# Altium integrated library Renesas Microprocessor SuperH.IntLib: 433 symbols (part 10 of 62)
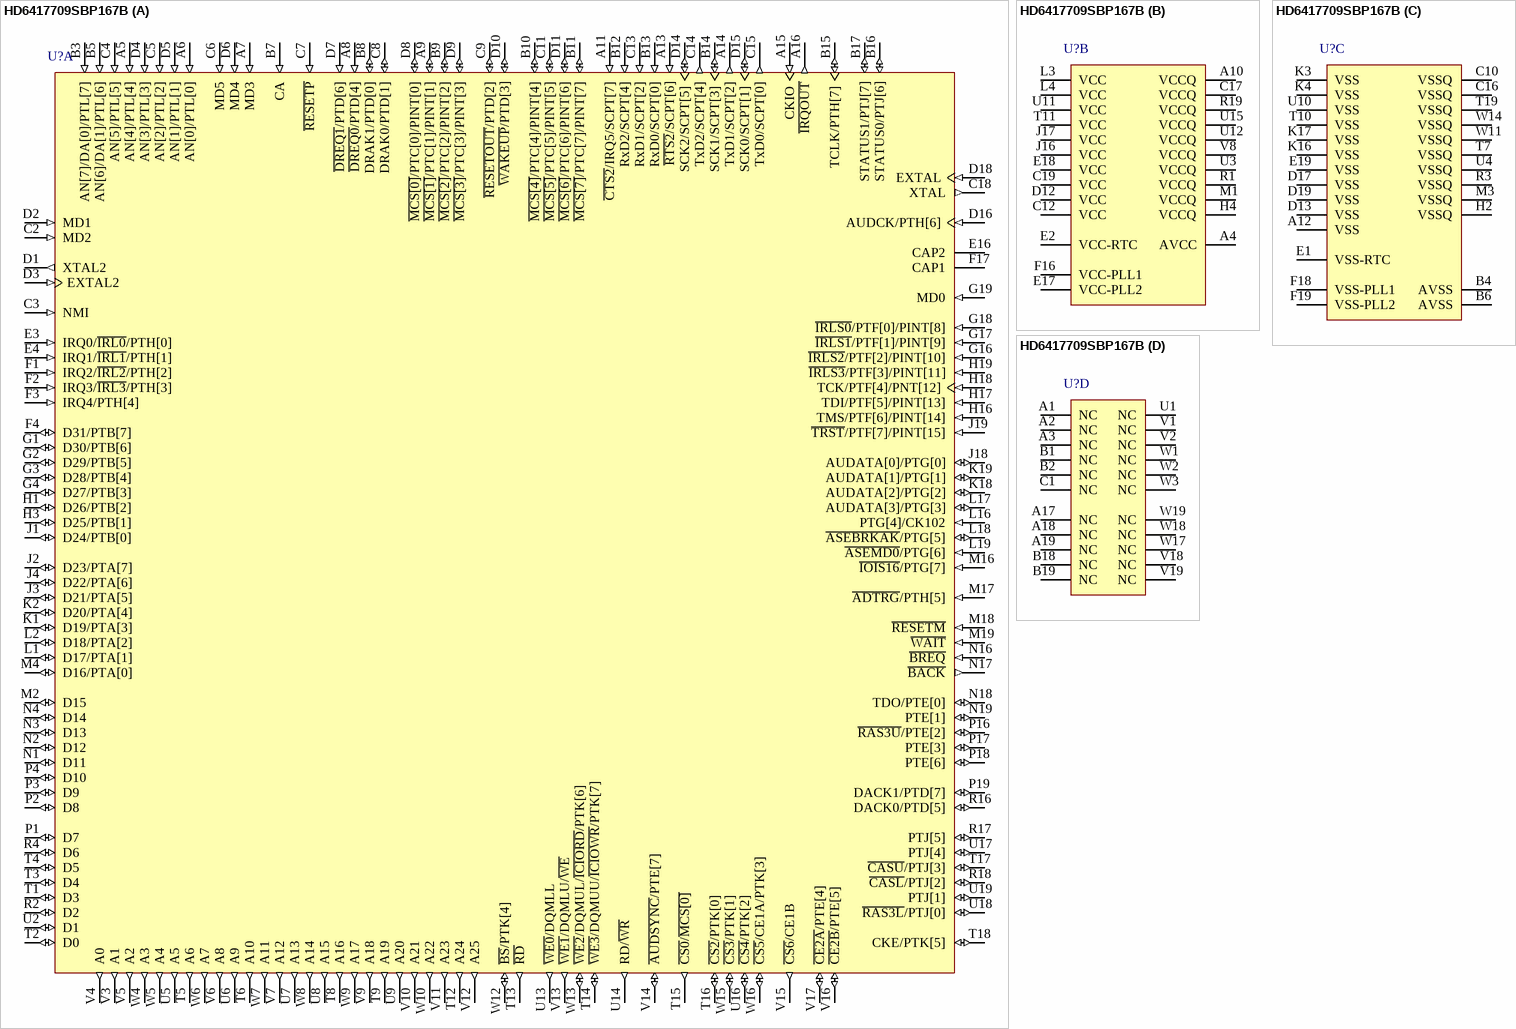
[diagram p285: symbol HD6417709SBP167B]

## HD6417709SBP167B
designator U?
32-Bit RISC Microcomputer, SH7700 Series, SH-3 core, 167MHz, 240-pin CSP, -20 to 75°C; Published: 28-Aug-2009; DatasheetVersion: Rev.5.00, Sep-2003; PackageVersion: Sep-2005; PackageReference: PLBG0240JA-A; Publisher: Altium Limited; PackageDescription: 240-Ball Plastic Low Profile Fine-Pitch BGA, 13 x 13 mm Body, 0.65 mm Pitch; Code_JEITA: P-LFBGA240-13x13-0.65; ComponentLink1Description: Manufacturer Link; ComponentLink1URL: http://www.renesas.com/fmwk.jsp?cnt=sh7709s_root.jsp&fp=/products/mpumcu/superh_family/sh7700_series/sh7709s_group/; ComponentLink2Description: Datasheet; ComponentLink2URL: http://documentation.renesas.com/eng/products/mpumcu/rej09b0081_sh7709s.pdf; ComponentLink3Description: Packaging Specification; ComponentLink3URL: http://sg.renesas.com/media/products/common_info/package/pdf/ic/code/plbg0240ja_a.pdf
footprint PLBG0240JA-A (BGA, 240-Leads, Body 13x13mm, Pitch 0.65mm)
part A pins: A5 AN[4]/PTL[4] (in) "A/D converter input / input port L", A6 AN[0]/PTL[0] (in) "A/D converter input / input port L", A7 MD3 (in) "Area 0 bus width setting", A8 ~{DREQ0}/PTD[4] (in) "DMA request / input port D", A9 ~{MCS[1]}/PTC[1]/PINT[1] (io) "Mask ROM chip select / input/output port C / port interrupt", A11 ~{CTS2}/IRQ5/SCPT[7] (in) "Transmit clear 2 / external interrupt request / SCI input port", A13 ~{RTS2}/SCPT[6] (in) "Transmit request 2 / SCI input/output port", A14 TxD1/SCPT[2] (out) "Transmit data 1 / SCI output port", A15 CKIO (in) "System clock input/output", A16 ~{IRQOUT} (out) "Interrupt request notification", B3 AN[7]/DA[0]/PTL[7] (in) "A/D converter input / D/A converter output / input port L", B5 AN[6]/DA[1]/PTL[6] (in) "A/D converter input / D/A converter output / input port L", B7 CA (in) "Chip activate (hardware standby request signal)", B8 DRAK1/PTD[0] (io) "DMA request acknowledge / input/output port D", B9 ~{MCS[2]}/PTC[2]/PINT[2] (io) "Mask ROM chip select / input/output port C / port interrupt", B10 ~{MCS[4]}/PTC[4]/PINT[4] (io) "Mask ROM chip select / input/output port C / port interrupt", B11 ~{MCS[7]}/PTC[7]/PINT[7] (io) "Mask ROM chip select / input/output port C / port interrupt", B12 RxD2/SCPT[4] (in) "Transmit data 2 / SCI output port", B13 RxD0/SCPT[0] (in) "Transmit data 0 / SCI output port", B14 SCK1/SCPT[3] (io) "Serial clock 1 port / SCI input/output", B15 TCLK/PTH[7] (io) "TMU or RTC clock input/output / input/output port H", B16 STATUS0/PTJ[6] (io) "Processor status / input/output port J", B17 STATUS1/PTJ[7] (io) "Processor status / input/output port J", C2 MD2 (in) "Clock mode setting", C3 NMI (in) "Nonmaskable interrupt request", C4 AN[5]/PTL[5] (in) "A/D converter input / input port L", C5 AN[2]/PTL[2] (in) "A/D converter input / input port L", C6 MD5 (in) "Endian setting", C7 ~{RESETP} (in) "Power-on reset request", C8 DRAK0/PTD[1] (io) "DMA request acknowledge / input/output port D", C9 ~{RESETOUT}/PTD[2] (io) "Reset output / input/output port D", C11 ~{MCS[5]}/PTC[5]/PINT[5] (io) "Mask ROM chip select / input/output port C / port interrupt", C13 RxD1/SCPT[2] (in) "Transmit data 1 / SCI output port", C14 TxD2/SCPT[4] (out) "Transmit data 2 / SCI output port", C15 TxD0/SCPT[0] (out) "Transmit data 0 / SCI output port", C18 XTAL (out) "Clock oscillator pin", D1 XTAL2 (out) "On-chip RTC crystal oscillator pin", D2 MD1 (in) "Clock mode setting", D3 EXTAL2 (in) "On-chip RTC crystal oscillator pin", D4 AN[3]/PTL[3] (in) "A/D converter input / input port L", D5 AN[1]/PTL[1] (in) "A/D converter input / input port L", D6 MD4 (in) "Area 0 bus width setting", D7 ~{DREQ1}/PTD[6] (in) "DMA request / input port D", D8 ~{MCS[0]}/PTC[0]/PINT[0] (io) "Mask ROM chip select / input/output port C / port interrupt", D9 ~{MCS[3]}/PTC[3]/PINT[3] (io) "Mask ROM chip select / input/output port C / port interrupt", D10 ~{WAKEUP}/PTD[3] (io) "Standby mode interrupt request notification / input/output port D", D11 ~{MCS[6]}/PTC[6]/PINT[6] (io) "Mask ROM chip select / input/output port C / port interrupt", D14 SCK2/SCPT[5] (io) "Serial clock 2 port / SCI input/output", D15 SCK0/SCPT[1] (io) "Serial clock 0 port / SCI input/output", D16 AUDCK/PTH[6] (in) "AUD clock / input port H", D18 EXTAL (in) "External clock pin / crystal oscillator", E3 IRQ0/~{IRL0}/PTH[0] (in) "External interrupt request/input port H", E4 IRQ1/~{IRL1}/PTH[1] (in) "External interrupt request/input port H", E16 CAP2 "PLL2 external capacitance pin", F1 IRQ2/~{IRL2}/PTH[2] (in) "External interrupt request/input port H", F2 IRQ3/~{IRL3}/PTH[3] (in) "External interrupt request/input port H", F3 IRQ4/PTH[4] (in) "External interrupt request/input port H", F4 D31/PTB[7] (io) "Data bus / input/output port B", F17 CAP1 "PLL1 external capacitance pin", G1 D30/PTB[6] (io) "Data bus / input/output port B", G2 D29/PTB[5] (io) "Data bus / input/output port B", G3 D28/PTB[4] (io) "Data bus / input/output port B", G4 D27/PTB[3] (io) "Data bus / input/output port B", G16 ~{IRLS2}/PTF[2]/PINT[10] (in) "External interrupt request / input port F / port interrupt", G17 ~{IRLS1}/PTF[1]/PINT[9] (in) "External interrupt request / input port F / port interrupt", G18 ~{IRLS0}/PTF[0]/PINT[8] (in) "External interrupt request / input port F / port interrupt", G19 MD0 (in) "Clock mode setting", H1 D26/PTB[2] (io) "Data bus / input/output port B", H3 D25/PTB[1] (io) "Data bus / input/output port B", H16 TMS/PTF[6]/PINT[14] (in) "Test mode switch / input port F / port interrupt", H17 TDI/PTF[5]/PINT[13] (in) "Test data input / input port F / port interrupt", H18 TCK/PTF[4]/PNT[12] (in) "Test clock / input port F / port interrupt", H19 ~{IRLS3}/PTF[3]/PINT[11] (in) "External interrupt request / input port F / port interrupt", J1 D24/PTB[0] (io) "Data bus / input/output port B", J2 D23/PTA[7] (io) "Data bus / input/output port A", J3 D21/PTA[5] (io) "Data bus / input/output port A", J4 D22/PTA[6] (io) "Data bus / input/output port A", J18 AUDATA[0]/PTG[0] (io) "AUD data / input port G", J19 ~{TRST}/PTF[7]/PINT[15] (in) "Test reset / input port F / port interrupt", K1 D19/PTA[3] (io) "Data bus / input/output port A", K2 D20/PTA[4] (io) "Data bus / input/output port A", K18 AUDATA[2]/PTG[2] (io) "AUD data / input port G", K19 AUDATA[1]/PTG[1] (io) "AUD data / input port G", L1 D17/PTA[1] (io) "Data bus / input/output port A", L2 D18/PTA[2] (io) "Data bus / input/output port A", L16 PTG[4]/CK102 (in) "Input port G / clock output", L17 AUDATA[3]/PTG[3] (io) "AUD data / input port G", L18 ~{ASEBRKAK}/PTG[5] (io) "ASE break acknowledge / input port G", L19 ~{ASEMD0}/PTG[6] (in) "ASE mode/ input port G", M2 D15 (io) "Data bus", M4 D16/PTA[0] (io) "Data bus / input/output port A", M16 ~{IOIS16}/PTG[7] (in) "IOIS16 (PCMCIA) / input port G", M17 ~{ADTRG}/PTH[5] (in) "Analog trigger / input port H", M18 ~{RESETM} (in) "Manual reset request", M19 ~{WAIT} (in) "Hardware wait request", N1 D11 (io) "Data bus", N2 D12 (io) "Data bus", N3 D13 (io) "Data bus", N4 D14 (io) "Data bus", N16 ~{BREQ} (in) "Bus request", N17 ~{BACK} (out) "Bus acknowledge", N18 TDO/PTE[0] (io) "Test data output / input/output port E", N19 PTE[1] (io) "Input/output port E", P1 D7 (io) "Data bus", P2 D8 (io) "Data bus", P3 D9 (io) "Data bus", P4 D10 (io) "Data bus", P16 ~{RAS3U}/PTE[2] (io) "Upper 32 Mbytes address (SDRAM) RAS / input/output port E", P17 PTE[3] (io) "Input/output port E", P18 PTE[6] (io) "Input/output port E", P19 DACK1/PTD[7] (io) "DMA acknowledge 1 / input/output port D", R2 D2 (io) "Data bus", R4 D6 (io) "Data bus", R16 DACK0/PTD[5] (io) "DMA acknowledge 0 / input/output port D", R17 PTJ[5] (io) "Input/output port J", R18 ~{CASL}/PTJ[2] (io) "Lower 32 M / 64 Mbytes address (SDRAM) CAS / input/output port J", T1 D3 (io) "Data bus", T2 D0 (io) "Data bus", T3 D4 (io) "Data bus", T4 D5 (io) "Data bus", T5 A6 (out) "Address bus", T6 A10 (out) "Address bus", T8 A16 (out) "Address bus", T9 A19 (out) "Address bus", T12 A24 (out) "Address bus", T13 ~{RD} (out) "Read strobe", T14 ~{WE3}/DQMUU/~{ICIOWR}/PTK[7] (io) "D31–D24 select signal / DQM (SDRAM) / PCMCIA I/O write / input/output port K", T15 ~{CS0}/~{MCS[0]} (out) "Chip select 0 / mask ROM chip select 0", T16 ~{CS2}/PTK[0] (io) "Chip select 2 / input/output port K", T17 ~{CASU}/PTJ[3] (io) "Lower 32 Mbytes address (SDRAM) CAS / input/output port J", T18 CKE/PTK[5] (io) "CK enable (SDRAM) / input/output port K", U2 D1 (io) "Data bus", U5 A5 (out) "Address bus", U6 A9 (out) "Address bus", U7 A13 (out) "Address bus", U8 A15 (out) "Address bus", U9 A20 (out) "Address bus", U13 ~{WE0}/DQMLL (out) "D7–D0 select signal / DQM (SDRAM)", U14 RD/~{WR} (out) "Read/write", U16 ~{CS4}/PTK[2] (io) "Chip select 4 / input/output port K", U17 PTJ[4] (io) "Input/output port J", U18 ~{RAS3L}/PTJ[0] (io) "Lower 32 M / 64 Mbytes address (SDRAM) RAS / input/output port J", U19 PTJ[1] (io) "Input/output port J", V3 A1 (out) "Address bus", V4 A0 (out) "Address bus", V5 A2 (out) "Address bus", V6 A8 (out) "Address bus", V7 A12 (out) "Address bus", V9 A18 (out) "Address bus", V10 A21 (out) "Address bus", V11 A23 (out) "Address bus", V12 A25 (out) "Address bus", V13 ~{WE1}/DQMLU/~{WE} (out) "D15–D8 select signal / DQM (SDRAM)", V14 ~{AUDSYNC}/PTE[7] (io) "AUD synchronous / input/output port E", V15 ~{CS6}/CE1B (out) "Chip select 6/CE1 (area 6 PCMCIA)", V16 ~{CE2B}/PTE[5] (io) "CE2 (area 6 PCMCIA) / input/output port E", V17 ~{CE2A}/PTE[4] (io) "CE2 (area 5 PCMCIA) / input/output port E", W4 A3 (out) "Address bus", W5 A4 (out) "Address bus", W6 A7 (out) "Address bus", W7 A11 (out) "Address bus", W8 A14 (out) "Address bus", W9 A17 (out) "Address bus", W10 A22 (out) "Address bus", W12 ~{BS}/PTK[4] (io) "Bus cycle start signal / input/output port K", W13 ~{WE2}/DQMUL/~{ICIORD}/PTK[6] (io) "D23–D16 select signal / DQM (SDRAM) / PCMCIA I/O read / input/output port K", W15 ~{CS3}/PTK[1] (io) "Chip select 3 / input/output port K", W16 ~{CS5}/CE1A/PTK[3] (io) "Chip select 5/CE1 (area 5 PCMCIA) / input/output port K"
part B pins: A4 AVCC (power) "Analog power supply (3.3V)", A10 VCCQ (power) "Input/output power supply (3.3V)", C12 VCC (power) "Power supply", C17 VCCQ (power) "Power supply (3.3V)", C19 VCC (power) "Power supply", D12 VCC (power) "Power supply", E2 VCC-RTC (power) "RTC power supply", E17 VCC-PLL2 (power) "PLL2 power supply", E18 VCC (power) "Power supply", F16 VCC-PLL1 (power) "PLL1 power supply", H4 VCCQ (power) "Input/output power supply (3.3V)", J16 VCC (power) "Power supply", J17 VCC (power) "Power supply", L3 VCC (power) "Power supply (1.9 V/1.8V)", L4 VCC (power) "Power supply", M1 VCCQ (power) "Input/output power supply (3.3V)", R1 VCCQ (power) "Input/output power supply (3.3V)", R19 VCCQ (power) "Input/output power supply (3.3V)", T11 VCC (power) "Power supply", U3 VCCQ (power) "Input/output power supply (3.3V)", U11 VCC (power) "Power supply", U12 VCCQ (power) "Input/output power supply (3.3V)", U15 VCCQ (power) "Input/output power supply (3.3V)", V8 VCCQ (power) "Input/output power supply (3.3V)"
part C pins: A12 VSS (power) "Power supply (0V)", B4 AVSS (power) "Analog power supply (0V)", B6 AVSS (power) "Analog power supply (0V)", C10 VSSQ (power) "Input/output power supply (0V)", C16 VSSQ (power) "Input/output power supply (0V)", D13 VSS (power) "Power supply (0V)", D17 VSS (power) "Power supply (0V)", D19 VSS (power) "Power supply (0V)", E1 VSS-RTC (power) "RTC power supply (0V)", E19 VSS (power) "Power supply (0V)", F18 VSS-PLL1 (power) "PLL1 power supply (0V)", F19 VSS-PLL2 (power) "PLL2 power supply (0V)", H2 VSSQ (power) "Input/output power supply (0V)", K3 VSS (power) "Power supply (0V)", K4 VSS (power) "Power supply (0V)", K16 VSS (power) "Power supply (0V)", K17 VSS (power) "Power supply (0V)", M3 VSSQ (power) "Input/output power supply (0V)", R3 VSSQ (power) "Input/output power supply (0V)", T7 VSSQ (power) "Input/output power supply (0V)", T10 VSS (power) "Power supply (0V)", T19 VSSQ (power) "Input/output power supply (0V)", U4 VSSQ (power) "Input/output power supply (0V)", U10 VSS (power) "Power supply (0V)", W11 VSSQ (power) "Input/output power supply (0V)", W14 VSSQ (power) "Input/output power supply (0V)"
part D pins: A1 NC "Do not connect anything to this pin.", A2 NC "Do not connect anything to this pin.", A3 NC "Do not connect anything to this pin.", A17 NC "Do not connect anything to this pin.", A18 NC "Do not connect anything to this pin.", A19 NC "Do not connect anything to this pin.", B1 NC "Do not connect anything to this pin.", B2 NC "Do not connect anything to this pin.", B18 NC "Do not connect anything to this pin.", B19 NC "Do not connect anything to this pin.", C1 NC "Do not connect anything to this pin.", U1 NC "Do not connect anything to this pin.", V1 NC "Do not connect anything to this pin.", V2 NC "Do not connect anything to this pin.", V18 NC "Do not connect anything to this pin.", V19 NC "Do not connect anything to this pin.", W1 NC "Do not connect anything to this pin.", W2 NC "Do not connect anything to this pin.", W3 NC "Do not connect anything to this pin.", W17 NC "Do not connect anything to this pin.", W18 NC "Do not connect anything to this pin.", W19 NC "Do not connect anything to this pin."

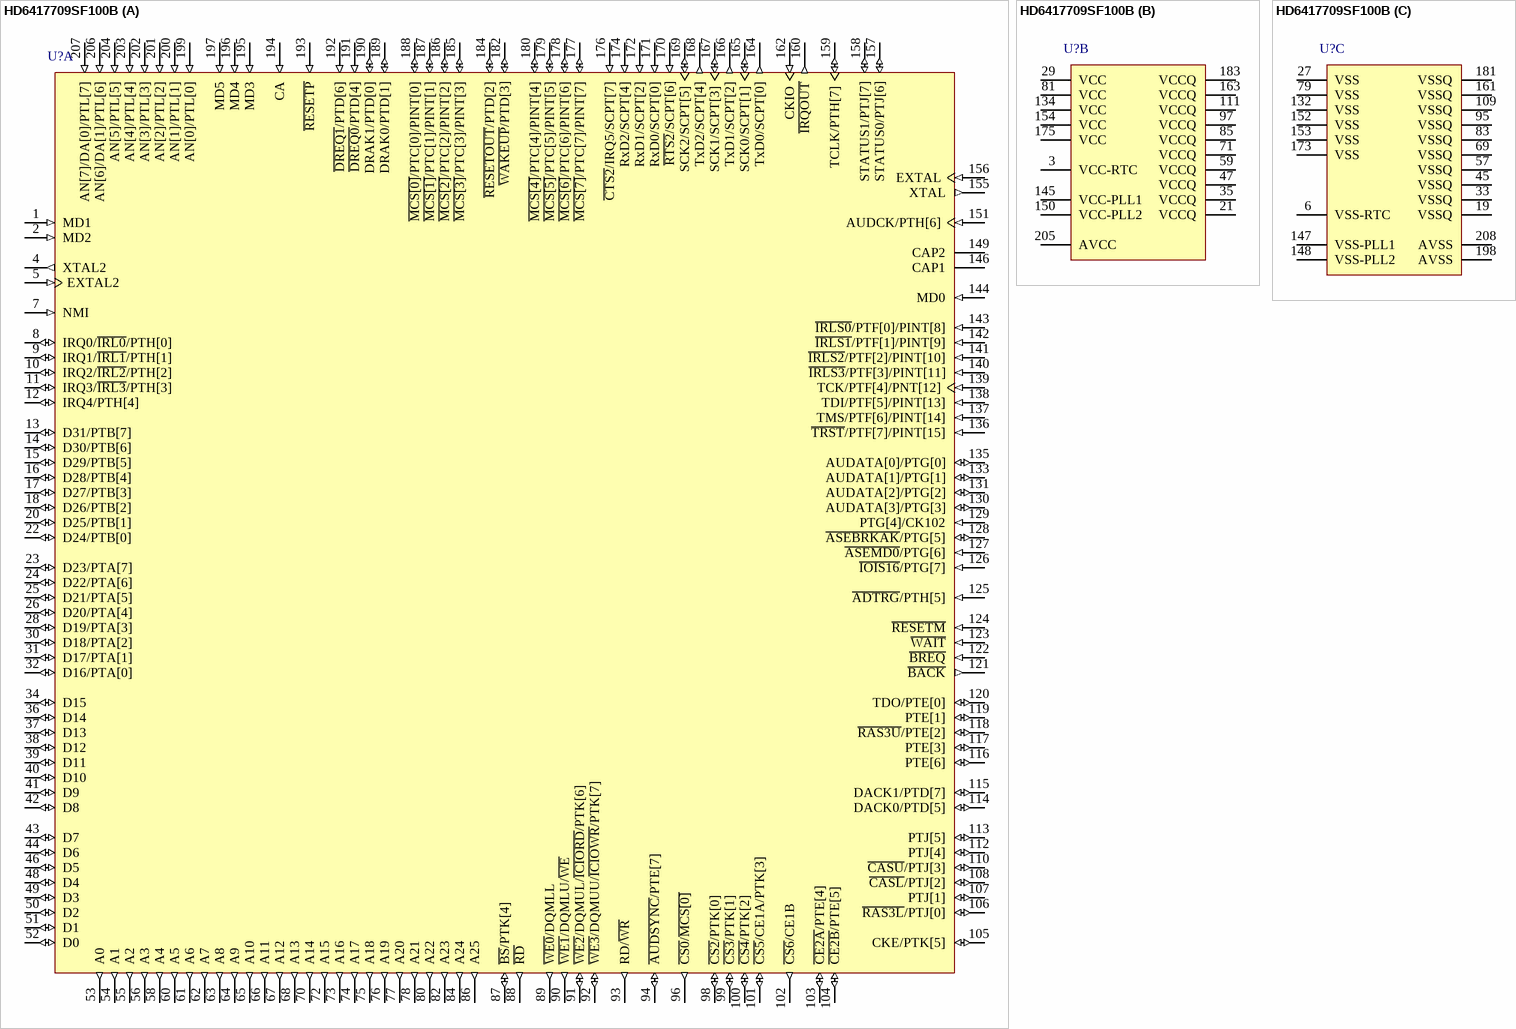
[diagram p35: symbol HD6417709SF100B]

## HD6417709SF100B
designator U?
32-Bit RISC Microcomputer, SH7700 Series, SH-3 core, 100MHz, 208-pin LQFP, -20 to 75°C; Published: 28-Aug-2009; DatasheetVersion: Rev.5.00, Sep-2003; PackageVersion: Sep-2005; PackageReference: PLQP0208KA-A; Publisher: Altium Limited; PackageDescription: 208-Pin Plastic Low Profile QFP, 28 x 28 x 1.4 mm Body, 0.5 mm Pitch; Code_JEITA: P-LQFP208-28x28-0.50; ComponentLink1Description: Manufacturer Link; ComponentLink1URL: http://www.renesas.com/fmwk.jsp?cnt=sh7709s_root.jsp&fp=/products/mpumcu/superh_family/sh7700_series/sh7709s_group/; ComponentLink2Description: Datasheet; ComponentLink2URL: http://documentation.renesas.com/eng/products/mpumcu/rej09b0081_sh7709s.pdf; ComponentLink3Description: Packaging Specification; ComponentLink3URL: http://sg.renesas.com/media/products/common_info/package/pdf/ic/code/plqp0208ka_a.pdf
footprint PLQP0208KA-A_N (Shrink QFP, 208-Leads, Body 28x28mm, Pitch 0.5mm, IPC Medium Density)
footprint PLQP0208KA-A_L (Shrink QFP, 208-Leads, Body 28x28mm, Pitch 0.5mm, IPC High Density)
footprint PLQP0208KA-A_M (Shrink QFP, 208-Leads, Body 28x28mm, Pitch 0.5mm, IPC Low Density)
part A pins: 1 MD1 (in) "Clock mode setting", 2 MD2 (in) "Clock mode setting", 4 XTAL2 (out) "On-chip RTC crystal oscillator pin", 5 EXTAL2 (in) "On-chip RTC crystal oscillator pin", 7 NMI (in) "Nonmaskable interrupt request", 8 IRQ0/~{IRL0}/PTH[0] (io) "External interrupt request/input port H", 9 IRQ1/~{IRL1}/PTH[1] (io) "External interrupt request/input port H", 10 IRQ2/~{IRL2}/PTH[2] (io) "External interrupt request/input port H", 11 IRQ3/~{IRL3}/PTH[3] (io) "External interrupt request/input port H", 12 IRQ4/PTH[4] (io) "External interrupt request/input port H", 13 D31/PTB[7] (io) "Data bus / input/output port B", 14 D30/PTB[6] (io) "Data bus / input/output port B", 15 D29/PTB[5] (io) "Data bus / input/output port B", 16 D28/PTB[4] (io) "Data bus / input/output port B", 17 D27/PTB[3] (io) "Data bus / input/output port B", 18 D26/PTB[2] (io) "Data bus / input/output port B", 20 D25/PTB[1] (io) "Data bus / input/output port B", 22 D24/PTB[0] (io) "Data bus / input/output port B", 23 D23/PTA[7] (io) "Data bus / input/output port A", 24 D22/PTA[6] (io) "Data bus / input/output port A", 25 D21/PTA[5] (io) "Data bus / input/output port A", 26 D20/PTA[4] (io) "Data bus / input/output port A", 28 D19/PTA[3] (io) "Data bus / input/output port A", 30 D18/PTA[2] (io) "Data bus / input/output port A", 31 D17/PTA[1] (io) "Data bus / input/output port A", 32 D16/PTA[0] (io) "Data bus / input/output port A", 34 D15 (io) "Data bus", 36 D14 (io) "Data bus", 37 D13 (io) "Data bus", 38 D12 (io) "Data bus", 39 D11 (io) "Data bus", 40 D10 (io) "Data bus", 41 D9 (io) "Data bus", 42 D8 (io) "Data bus", 43 D7 (io) "Data bus", 44 D6 (io) "Data bus", 46 D5 (io) "Data bus", 48 D4 (io) "Data bus", 49 D3 (io) "Data bus", 50 D2 (io) "Data bus", 51 D1 (io) "Data bus", 52 D0 (io) "Data bus", 53 A0 (out) "Address bus", 54 A1 (out) "Address bus", 55 A2 (out) "Address bus", 56 A3 (out) "Address bus", 58 A4 (out) "Address bus", 60 A5 (out) "Address bus", 61 A6 (out) "Address bus", 62 A7 (out) "Address bus", 63 A8 (out) "Address bus", 64 A9 (out) "Address bus", 65 A10 (out) "Address bus", 66 A11 (out) "Address bus", 67 A12 (out) "Address bus", 68 A13 (out) "Address bus", 70 A14 (out) "Address bus", 72 A15 (out) "Address bus", 73 A16 (out) "Address bus", 74 A17 (out) "Address bus", 75 A18 (out) "Address bus", 76 A19 (out) "Address bus", 77 A20 (out) "Address bus", 78 A21 (out) "Address bus", 80 A22 (out) "Address bus", 82 A23 (out) "Address bus", 84 A24 (out) "Address bus", 86 A25 (out) "Address bus", 87 ~{BS}/PTK[4] (io) "Bus cycle start signal / input/output port K", 88 ~{RD} (out) "Read strobe", 89 ~{WE0}/DQMLL (out) "D7–D0 select signal / DQM (SDRAM)", 90 ~{WE1}/DQMLU/~{WE} (out) "D15–D8 select signal / DQM (SDRAM)", 91 ~{WE2}/DQMUL/~{ICIORD}/PTK[6] (io) "D23–D16 select signal / DQM (SDRAM) / PCMCIA I/O read / input/output port K", 92 ~{WE3}/DQMUU/~{ICIOWR}/PTK[7] (io) "D31–D24 select signal / DQM (SDRAM) / PCMCIA I/O write / input/output port K", 93 RD/~{WR} (out) "Read/write", 94 ~{AUDSYNC}/PTE[7] (io) "AUD synchronous / input/output port E", 96 ~{CS0}/~{MCS[0]} (out) "Chip select 0 / mask ROM chip select 0", 98 ~{CS2}/PTK[0] (io) "Chip select 2 / input/output port K", 99 ~{CS3}/PTK[1] (io) "Chip select 3 / input/output port K", 100 ~{CS4}/PTK[2] (io) "Chip select 4 / input/output port K", 101 ~{CS5}/CE1A/PTK[3] (io) "Chip select 5/CE1 (area 5 PCMCIA) / input/output port K", 102 ~{CS6}/CE1B (out) "Chip select 6/CE1 (area 6 PCMCIA)", 103 ~{CE2A}/PTE[4] (io) "CE2 (area 5 PCMCIA) / input/output port E", 104 ~{CE2B}/PTE[5] (io) "CE2 (area 6 PCMCIA) / input/output port E", 105 CKE/PTK[5] (io) "CK enable (SDRAM) / input/output port K", 106 ~{RAS3L}/PTJ[0] (io) "Lower 32 M / 64 Mbytes address (SDRAM) RAS / input/output port J", 107 PTJ[1] (io) "Input/output port J", 108 ~{CASL}/PTJ[2] (io) "Lower 32 M / 64 Mbytes address (SDRAM) CAS / input/output port J", 110 ~{CASU}/PTJ[3] (io) "Lower 32 Mbytes address (SDRAM) CAS / input/output port J", 112 PTJ[4] (io) "Input/output port J", 113 PTJ[5] (io) "Input/output port J", 114 DACK0/PTD[5] (io) "DMA acknowledge 0 / input/output port D", 115 DACK1/PTD[7] (io) "DMA acknowledge 1 / input/output port D", 116 PTE[6] (io) "Input/output port E", 117 PTE[3] (io) "Input/output port E", 118 ~{RAS3U}/PTE[2] (io) "Upper 32 Mbytes address (SDRAM) RAS / input/output port E", 119 PTE[1] (io) "Input/output port E", 120 TDO/PTE[0] (io) "Test data output / input/output port E", 121 ~{BACK} (out) "Bus acknowledge", 122 ~{BREQ} (in) "Bus request", 123 ~{WAIT} (in) "Hardware wait request", 124 ~{RESETM} (in) "Manual reset request", 125 ~{ADTRG}/PTH[5] (in) "Analog trigger / input port H", 126 ~{IOIS16}/PTG[7] (in) "IOIS16 (PCMCIA) / input port G", 127 ~{ASEMD0}/PTG[6] (in) "ASE mode/ input port G", 128 ~{ASEBRKAK}/PTG[5] (io) "ASE break acknowledge / input port G", 129 PTG[4]/CK102 (in) "Input port G / clock output", 130 AUDATA[3]/PTG[3] (io) "AUD data / input port G", 131 AUDATA[2]/PTG[2] (io) "AUD data / input port G", 133 AUDATA[1]/PTG[1] (io) "AUD data / input port G", 135 AUDATA[0]/PTG[0] (io) "AUD data / input port G", 136 ~{TRST}/PTF[7]/PINT[15] (in) "Test reset / input port F / port interrupt", 137 TMS/PTF[6]/PINT[14] (in) "Test mode switch / input port F / port interrupt", 138 TDI/PTF[5]/PINT[13] (in) "Test data input / input port F / port interrupt", 139 TCK/PTF[4]/PNT[12] (in) "Test clock / input port F / port interrupt", 140 ~{IRLS3}/PTF[3]/PINT[11] (in) "External interrupt request / input port F / port interrupt", 141 ~{IRLS2}/PTF[2]/PINT[10] (in) "External interrupt request / input port F / port interrupt", 142 ~{IRLS1}/PTF[1]/PINT[9] (in) "External interrupt request / input port F / port interrupt", 143 ~{IRLS0}/PTF[0]/PINT[8] (in) "External interrupt request / input port F / port interrupt", 144 MD0 (in) "Clock mode setting", 146 CAP1 "PLL1 external capacitance pin", 149 CAP2 "PLL2 external capacitance pin", 151 AUDCK/PTH[6] (in) "AUD clock / input port H", 155 XTAL (out) "Clock oscillator pin", 156 EXTAL (in) "External clock pin / crystal oscillator", 157 STATUS0/PTJ[6] (io) "Processor status / input/output port J", 158 STATUS1/PTJ[7] (io) "Processor status / input/output port J", 159 TCLK/PTH[7] (io) "TMU or RTC clock input/output / input/output port H", 160 ~{IRQOUT} (out) "Interrupt request notification", 162 CKIO (in) "System clock input/output", 164 TxD0/SCPT[0] (out) "Transmit data 0 / SCI output port", 165 SCK0/SCPT[1] (io) "Serial clock 0 port / SCI input/output", 166 TxD1/SCPT[2] (out) "Transmit data 1 / SCI output port", 167 SCK1/SCPT[3] (io) "Serial clock 1 port / SCI input/output", 168 TxD2/SCPT[4] (out) "Transmit data 2 / SCI output port", 169 SCK2/SCPT[5] (io) "Serial clock 2 port / SCI input/output", 170 ~{RTS2}/SCPT[6] (in) "Transmit request 2 / SCI input/output port", 171 RxD0/SCPT[0] (in) "Transmit data 0 / SCI output port", 172 RxD1/SCPT[2] (in) "Transmit data 1 / SCI output port", 174 RxD2/SCPT[4] (in) "Transmit data 2 / SCI output port", 176 ~{CTS2}/IRQ5/SCPT[7] (in) "Transmit clear 2 / external interrupt request / SCI input port", 177 ~{MCS[7]}/PTC[7]/PINT[7] (io) "Mask ROM chip select / input/output port C / port interrupt", 178 ~{MCS[6]}/PTC[6]/PINT[6] (io) "Mask ROM chip select / input/output port C / port interrupt", 179 ~{MCS[5]}/PTC[5]/PINT[5] (io) "Mask ROM chip select / input/output port C / port interrupt", 180 ~{MCS[4]}/PTC[4]/PINT[4] (io) "Mask ROM chip select / input/output port C / port interrupt", 182 ~{WAKEUP}/PTD[3] (io) "Standby mode interrupt request notification / input/output port D", 184 ~{RESETOUT}/PTD[2] (io) "Reset output / input/output port D", 185 ~{MCS[3]}/PTC[3]/PINT[3] (io) "Mask ROM chip select / input/output port C / port interrupt", 186 ~{MCS[2]}/PTC[2]/PINT[2] (io) "Mask ROM chip select / input/output port C / port interrupt", 187 ~{MCS[1]}/PTC[1]/PINT[1] (io) "Mask ROM chip select / input/output port C / port interrupt", 188 ~{MCS[0]}/PTC[0]/PINT[0] (io) "Mask ROM chip select / input/output port C / port interrupt", 189 DRAK0/PTD[1] (io) "DMA request acknowledge / input/output port D", 190 DRAK1/PTD[0] (io) "DMA request acknowledge / input/output port D", 191 ~{DREQ0}/PTD[4] (in) "DMA request / input port D", 192 ~{DREQ1}/PTD[6] (in) "DMA request / input port D", 193 ~{RESETP} (in) "Power-on reset request", 194 CA (in) "Chip activate (hardware standby request signal)", 195 MD3 (in) "Area 0 bus width setting", 196 MD4 (in) "Area 0 bus width setting", 197 MD5 (in) "Endian setting", 199 AN[0]/PTL[0] (in) "A/D converter input / input port L", 200 AN[1]/PTL[1] (in) "A/D converter input / input port L", 201 AN[2]/PTL[2] (in) "A/D converter input / input port L", 202 AN[3]/PTL[3] (in) "A/D converter input / input port L", 203 AN[4]/PTL[4] (in) "A/D converter input / input port L", 204 AN[5]/PTL[5] (in) "A/D converter input / input port L", 206 AN[6]/DA[1]/PTL[6] (in) "A/D converter input / D/A converter output / input port L", 207 AN[7]/DA[0]/PTL[7] (in) "A/D converter input / D/A converter output / input port L"
part B pins: 3 VCC-RTC (power) "RTC power supply", 21 VCCQ (power) "Input/output power supply (3.3V)", 29 VCC (power) "Power supply (1.9 V/1.8V)", 35 VCCQ (power) "Input/output power supply (3.3V)", 47 VCCQ (power) "Input/output power supply (3.3V)", 59 VCCQ (power) "Input/output power supply (3.3V)", 71 VCCQ (power) "Input/output power supply (3.3V)", 81 VCC (power) "Power supply", 85 VCCQ (power) "Input/output power supply (3.3V)", 97 VCCQ (power) "Input/output power supply (3.3V)", 111 VCCQ (power) "Input/output power supply (3.3V)", 134 VCC (power) "Power supply", 145 VCC-PLL1 (power) "PLL1 power supply", 150 VCC-PLL2 (power) "PLL2 power supply", 154 VCC (power) "Power supply", 163 VCCQ (power) "Power supply (3.3V)", 175 VCC (power) "Power supply", 183 VCCQ (power) "Input/output power supply (3.3V)", 205 AVCC (power) "Analog power supply (3.3V)"
part C pins: 6 VSS-RTC (power) "RTC power supply (0V)", 19 VSSQ (power) "Input/output power supply (0V)", 27 VSS (power) "Power supply (0V)", 33 VSSQ (power) "Input/output power supply (0V)", 45 VSSQ (power) "Input/output power supply (0V)", 57 VSSQ (power) "Input/output power supply (0V)", 69 VSSQ (power) "Input/output power supply (0V)", 79 VSS (power) "Power supply (0V)", 83 VSSQ (power) "Input/output power supply (0V)", 95 VSSQ (power) "Input/output power supply (0V)", 109 VSSQ (power) "Input/output power supply (0V)", 132 VSS (power) "Power supply (0V)", 147 VSS-PLL1 (power) "PLL1 power supply (0V)", 148 VSS-PLL2 (power) "PLL2 power supply (0V)", 152 VSS (power) "Power supply (0V)", 153 VSS (power) "Power supply (0V)", 161 VSSQ (power) "Input/output power supply (0V)", 173 VSS (power) "Power supply (0V)", 181 VSSQ (power) "Input/output power supply (0V)", 198 AVSS (power) "Analog power supply (0V)", 208 AVSS (power) "Analog power supply (0V)"

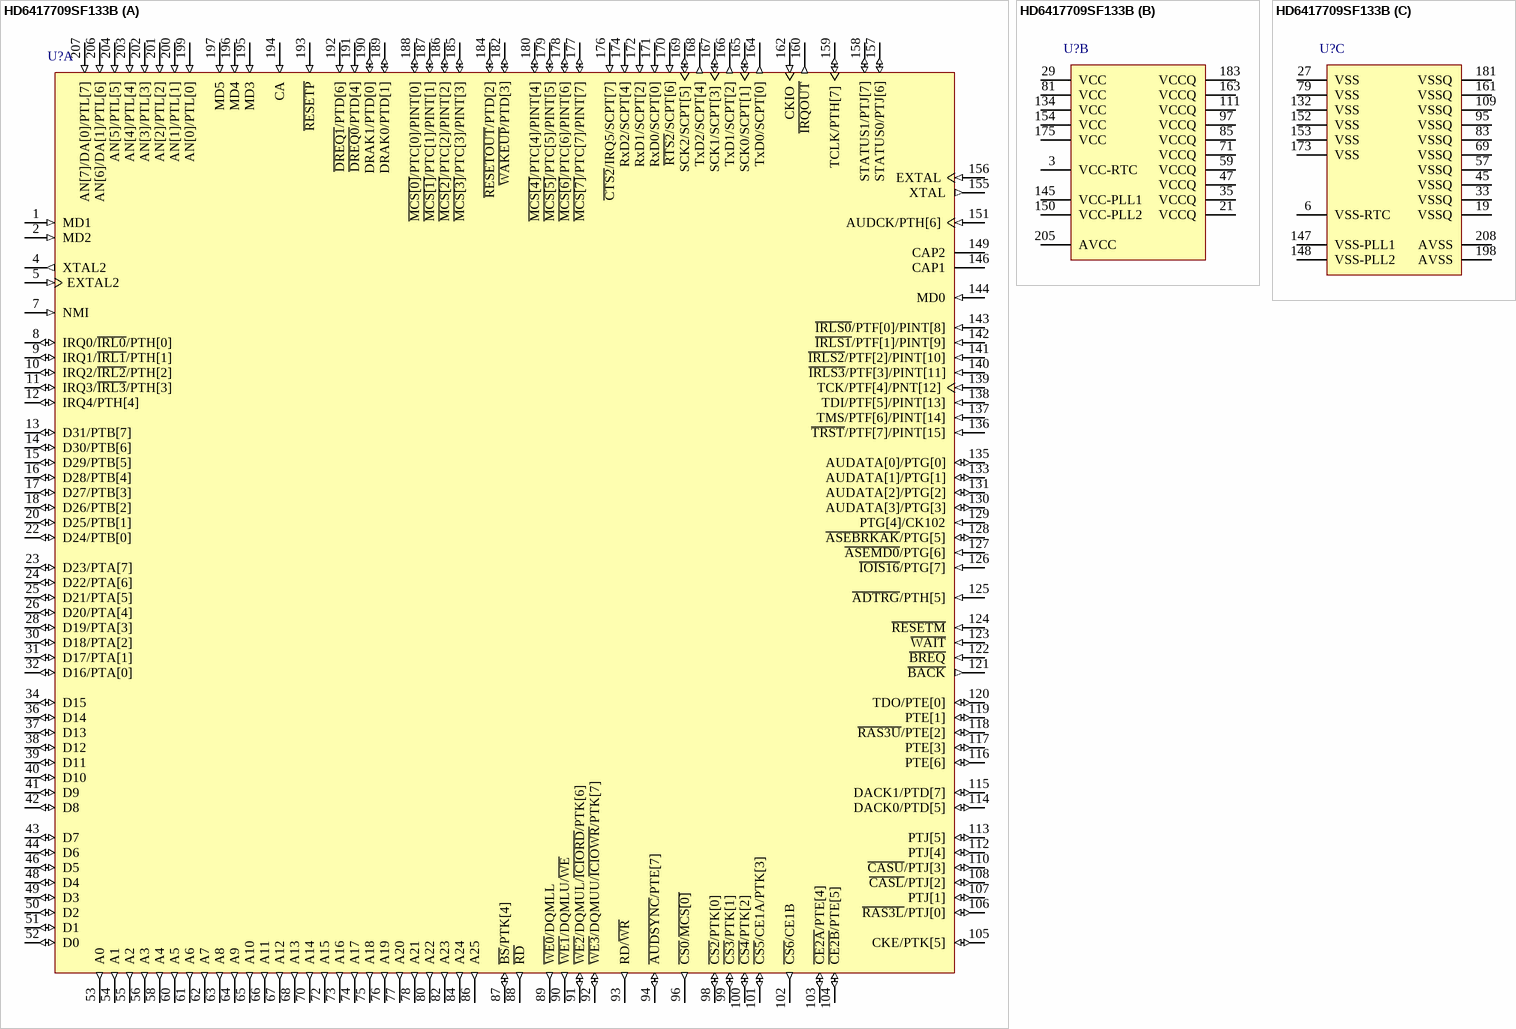
[diagram p36: symbol HD6417709SF133B]

## HD6417709SF133B
designator U?
32-Bit RISC Microcomputer, SH7700 Series, SH-3 core, 133MHz, 208-pin LQFP, -20 to 75°C; Published: 28-Aug-2009; DatasheetVersion: Rev.5.00, Sep-2003; PackageVersion: Sep-2005; PackageReference: PLQP0208KA-A; Publisher: Altium Limited; PackageDescription: 208-Pin Plastic Low Profile QFP, 28 x 28 x 1.4 mm Body, 0.5 mm Pitch; Supplier 1: Digi-Key; Supplier Part Number 1: HD6417709SF133B-ND; Code_JEITA: P-LQFP208-28x28-0.50; ComponentLink1Description: Manufacturer Link; ComponentLink1URL: http://www.renesas.com/fmwk.jsp?cnt=sh7709s_root.jsp&fp=/products/mpumcu/superh_family/sh7700_series/sh7709s_group/; ComponentLink2Description: Datasheet; ComponentLink2URL: http://documentation.renesas.com/eng/products/mpumcu/rej09b0081_sh7709s.pdf; ComponentLink3Description: Packaging Specification; ComponentLink3URL: http://sg.renesas.com/media/products/common_info/package/pdf/ic/code/plqp0208ka_a.pdf
footprint PLQP0208KA-A_N (Shrink QFP, 208-Leads, Body 28x28mm, Pitch 0.5mm, IPC Medium Density)
footprint PLQP0208KA-A_L (Shrink QFP, 208-Leads, Body 28x28mm, Pitch 0.5mm, IPC High Density)
footprint PLQP0208KA-A_M (Shrink QFP, 208-Leads, Body 28x28mm, Pitch 0.5mm, IPC Low Density)
part A pins: 1 MD1 (in) "Clock mode setting", 2 MD2 (in) "Clock mode setting", 4 XTAL2 (out) "On-chip RTC crystal oscillator pin", 5 EXTAL2 (in) "On-chip RTC crystal oscillator pin", 7 NMI (in) "Nonmaskable interrupt request", 8 IRQ0/~{IRL0}/PTH[0] (io) "External interrupt request/input port H", 9 IRQ1/~{IRL1}/PTH[1] (io) "External interrupt request/input port H", 10 IRQ2/~{IRL2}/PTH[2] (io) "External interrupt request/input port H", 11 IRQ3/~{IRL3}/PTH[3] (io) "External interrupt request/input port H", 12 IRQ4/PTH[4] (io) "External interrupt request/input port H", 13 D31/PTB[7] (io) "Data bus / input/output port B", 14 D30/PTB[6] (io) "Data bus / input/output port B", 15 D29/PTB[5] (io) "Data bus / input/output port B", 16 D28/PTB[4] (io) "Data bus / input/output port B", 17 D27/PTB[3] (io) "Data bus / input/output port B", 18 D26/PTB[2] (io) "Data bus / input/output port B", 20 D25/PTB[1] (io) "Data bus / input/output port B", 22 D24/PTB[0] (io) "Data bus / input/output port B", 23 D23/PTA[7] (io) "Data bus / input/output port A", 24 D22/PTA[6] (io) "Data bus / input/output port A", 25 D21/PTA[5] (io) "Data bus / input/output port A", 26 D20/PTA[4] (io) "Data bus / input/output port A", 28 D19/PTA[3] (io) "Data bus / input/output port A", 30 D18/PTA[2] (io) "Data bus / input/output port A", 31 D17/PTA[1] (io) "Data bus / input/output port A", 32 D16/PTA[0] (io) "Data bus / input/output port A", 34 D15 (io) "Data bus", 36 D14 (io) "Data bus", 37 D13 (io) "Data bus", 38 D12 (io) "Data bus", 39 D11 (io) "Data bus", 40 D10 (io) "Data bus", 41 D9 (io) "Data bus", 42 D8 (io) "Data bus", 43 D7 (io) "Data bus", 44 D6 (io) "Data bus", 46 D5 (io) "Data bus", 48 D4 (io) "Data bus", 49 D3 (io) "Data bus", 50 D2 (io) "Data bus", 51 D1 (io) "Data bus", 52 D0 (io) "Data bus", 53 A0 (out) "Address bus", 54 A1 (out) "Address bus", 55 A2 (out) "Address bus", 56 A3 (out) "Address bus", 58 A4 (out) "Address bus", 60 A5 (out) "Address bus", 61 A6 (out) "Address bus", 62 A7 (out) "Address bus", 63 A8 (out) "Address bus", 64 A9 (out) "Address bus", 65 A10 (out) "Address bus", 66 A11 (out) "Address bus", 67 A12 (out) "Address bus", 68 A13 (out) "Address bus", 70 A14 (out) "Address bus", 72 A15 (out) "Address bus", 73 A16 (out) "Address bus", 74 A17 (out) "Address bus", 75 A18 (out) "Address bus", 76 A19 (out) "Address bus", 77 A20 (out) "Address bus", 78 A21 (out) "Address bus", 80 A22 (out) "Address bus", 82 A23 (out) "Address bus", 84 A24 (out) "Address bus", 86 A25 (out) "Address bus", 87 ~{BS}/PTK[4] (io) "Bus cycle start signal / input/output port K", 88 ~{RD} (out) "Read strobe", 89 ~{WE0}/DQMLL (out) "D7–D0 select signal / DQM (SDRAM)", 90 ~{WE1}/DQMLU/~{WE} (out) "D15–D8 select signal / DQM (SDRAM)", 91 ~{WE2}/DQMUL/~{ICIORD}/PTK[6] (io) "D23–D16 select signal / DQM (SDRAM) / PCMCIA I/O read / input/output port K", 92 ~{WE3}/DQMUU/~{ICIOWR}/PTK[7] (io) "D31–D24 select signal / DQM (SDRAM) / PCMCIA I/O write / input/output port K", 93 RD/~{WR} (out) "Read/write", 94 ~{AUDSYNC}/PTE[7] (io) "AUD synchronous / input/output port E", 96 ~{CS0}/~{MCS[0]} (out) "Chip select 0 / mask ROM chip select 0", 98 ~{CS2}/PTK[0] (io) "Chip select 2 / input/output port K", 99 ~{CS3}/PTK[1] (io) "Chip select 3 / input/output port K", 100 ~{CS4}/PTK[2] (io) "Chip select 4 / input/output port K", 101 ~{CS5}/CE1A/PTK[3] (io) "Chip select 5/CE1 (area 5 PCMCIA) / input/output port K", 102 ~{CS6}/CE1B (out) "Chip select 6/CE1 (area 6 PCMCIA)", 103 ~{CE2A}/PTE[4] (io) "CE2 (area 5 PCMCIA) / input/output port E", 104 ~{CE2B}/PTE[5] (io) "CE2 (area 6 PCMCIA) / input/output port E", 105 CKE/PTK[5] (io) "CK enable (SDRAM) / input/output port K", 106 ~{RAS3L}/PTJ[0] (io) "Lower 32 M / 64 Mbytes address (SDRAM) RAS / input/output port J", 107 PTJ[1] (io) "Input/output port J", 108 ~{CASL}/PTJ[2] (io) "Lower 32 M / 64 Mbytes address (SDRAM) CAS / input/output port J", 110 ~{CASU}/PTJ[3] (io) "Lower 32 Mbytes address (SDRAM) CAS / input/output port J", 112 PTJ[4] (io) "Input/output port J", 113 PTJ[5] (io) "Input/output port J", 114 DACK0/PTD[5] (io) "DMA acknowledge 0 / input/output port D", 115 DACK1/PTD[7] (io) "DMA acknowledge 1 / input/output port D", 116 PTE[6] (io) "Input/output port E", 117 PTE[3] (io) "Input/output port E", 118 ~{RAS3U}/PTE[2] (io) "Upper 32 Mbytes address (SDRAM) RAS / input/output port E", 119 PTE[1] (io) "Input/output port E", 120 TDO/PTE[0] (io) "Test data output / input/output port E", 121 ~{BACK} (out) "Bus acknowledge", 122 ~{BREQ} (in) "Bus request", 123 ~{WAIT} (in) "Hardware wait request", 124 ~{RESETM} (in) "Manual reset request", 125 ~{ADTRG}/PTH[5] (in) "Analog trigger / input port H", 126 ~{IOIS16}/PTG[7] (in) "IOIS16 (PCMCIA) / input port G", 127 ~{ASEMD0}/PTG[6] (in) "ASE mode/ input port G", 128 ~{ASEBRKAK}/PTG[5] (io) "ASE break acknowledge / input port G", 129 PTG[4]/CK102 (in) "Input port G / clock output", 130 AUDATA[3]/PTG[3] (io) "AUD data / input port G", 131 AUDATA[2]/PTG[2] (io) "AUD data / input port G", 133 AUDATA[1]/PTG[1] (io) "AUD data / input port G", 135 AUDATA[0]/PTG[0] (io) "AUD data / input port G", 136 ~{TRST}/PTF[7]/PINT[15] (in) "Test reset / input port F / port interrupt", 137 TMS/PTF[6]/PINT[14] (in) "Test mode switch / input port F / port interrupt", 138 TDI/PTF[5]/PINT[13] (in) "Test data input / input port F / port interrupt", 139 TCK/PTF[4]/PNT[12] (in) "Test clock / input port F / port interrupt", 140 ~{IRLS3}/PTF[3]/PINT[11] (in) "External interrupt request / input port F / port interrupt", 141 ~{IRLS2}/PTF[2]/PINT[10] (in) "External interrupt request / input port F / port interrupt", 142 ~{IRLS1}/PTF[1]/PINT[9] (in) "External interrupt request / input port F / port interrupt", 143 ~{IRLS0}/PTF[0]/PINT[8] (in) "External interrupt request / input port F / port interrupt", 144 MD0 (in) "Clock mode setting", 146 CAP1 "PLL1 external capacitance pin", 149 CAP2 "PLL2 external capacitance pin", 151 AUDCK/PTH[6] (in) "AUD clock / input port H", 155 XTAL (out) "Clock oscillator pin", 156 EXTAL (in) "External clock pin / crystal oscillator", 157 STATUS0/PTJ[6] (io) "Processor status / input/output port J", 158 STATUS1/PTJ[7] (io) "Processor status / input/output port J", 159 TCLK/PTH[7] (io) "TMU or RTC clock input/output / input/output port H", 160 ~{IRQOUT} (out) "Interrupt request notification", 162 CKIO (in) "System clock input/output", 164 TxD0/SCPT[0] (out) "Transmit data 0 / SCI output port", 165 SCK0/SCPT[1] (io) "Serial clock 0 port / SCI input/output", 166 TxD1/SCPT[2] (out) "Transmit data 1 / SCI output port", 167 SCK1/SCPT[3] (io) "Serial clock 1 port / SCI input/output", 168 TxD2/SCPT[4] (out) "Transmit data 2 / SCI output port", 169 SCK2/SCPT[5] (io) "Serial clock 2 port / SCI input/output", 170 ~{RTS2}/SCPT[6] (in) "Transmit request 2 / SCI input/output port", 171 RxD0/SCPT[0] (in) "Transmit data 0 / SCI output port", 172 RxD1/SCPT[2] (in) "Transmit data 1 / SCI output port", 174 RxD2/SCPT[4] (in) "Transmit data 2 / SCI output port", 176 ~{CTS2}/IRQ5/SCPT[7] (in) "Transmit clear 2 / external interrupt request / SCI input port", 177 ~{MCS[7]}/PTC[7]/PINT[7] (io) "Mask ROM chip select / input/output port C / port interrupt", 178 ~{MCS[6]}/PTC[6]/PINT[6] (io) "Mask ROM chip select / input/output port C / port interrupt", 179 ~{MCS[5]}/PTC[5]/PINT[5] (io) "Mask ROM chip select / input/output port C / port interrupt", 180 ~{MCS[4]}/PTC[4]/PINT[4] (io) "Mask ROM chip select / input/output port C / port interrupt", 182 ~{WAKEUP}/PTD[3] (io) "Standby mode interrupt request notification / input/output port D", 184 ~{RESETOUT}/PTD[2] (io) "Reset output / input/output port D", 185 ~{MCS[3]}/PTC[3]/PINT[3] (io) "Mask ROM chip select / input/output port C / port interrupt", 186 ~{MCS[2]}/PTC[2]/PINT[2] (io) "Mask ROM chip select / input/output port C / port interrupt", 187 ~{MCS[1]}/PTC[1]/PINT[1] (io) "Mask ROM chip select / input/output port C / port interrupt", 188 ~{MCS[0]}/PTC[0]/PINT[0] (io) "Mask ROM chip select / input/output port C / port interrupt", 189 DRAK0/PTD[1] (io) "DMA request acknowledge / input/output port D", 190 DRAK1/PTD[0] (io) "DMA request acknowledge / input/output port D", 191 ~{DREQ0}/PTD[4] (in) "DMA request / input port D", 192 ~{DREQ1}/PTD[6] (in) "DMA request / input port D", 193 ~{RESETP} (in) "Power-on reset request", 194 CA (in) "Chip activate (hardware standby request signal)", 195 MD3 (in) "Area 0 bus width setting", 196 MD4 (in) "Area 0 bus width setting", 197 MD5 (in) "Endian setting", 199 AN[0]/PTL[0] (in) "A/D converter input / input port L", 200 AN[1]/PTL[1] (in) "A/D converter input / input port L", 201 AN[2]/PTL[2] (in) "A/D converter input / input port L", 202 AN[3]/PTL[3] (in) "A/D converter input / input port L", 203 AN[4]/PTL[4] (in) "A/D converter input / input port L", 204 AN[5]/PTL[5] (in) "A/D converter input / input port L", 206 AN[6]/DA[1]/PTL[6] (in) "A/D converter input / D/A converter output / input port L", 207 AN[7]/DA[0]/PTL[7] (in) "A/D converter input / D/A converter output / input port L"
part B pins: 3 VCC-RTC (power) "RTC power supply", 21 VCCQ (power) "Input/output power supply (3.3V)", 29 VCC (power) "Power supply (1.9 V/1.8V)", 35 VCCQ (power) "Input/output power supply (3.3V)", 47 VCCQ (power) "Input/output power supply (3.3V)", 59 VCCQ (power) "Input/output power supply (3.3V)", 71 VCCQ (power) "Input/output power supply (3.3V)", 81 VCC (power) "Power supply", 85 VCCQ (power) "Input/output power supply (3.3V)", 97 VCCQ (power) "Input/output power supply (3.3V)", 111 VCCQ (power) "Input/output power supply (3.3V)", 134 VCC (power) "Power supply", 145 VCC-PLL1 (power) "PLL1 power supply", 150 VCC-PLL2 (power) "PLL2 power supply", 154 VCC (power) "Power supply", 163 VCCQ (power) "Power supply (3.3V)", 175 VCC (power) "Power supply", 183 VCCQ (power) "Input/output power supply (3.3V)", 205 AVCC (power) "Analog power supply (3.3V)"
part C pins: 6 VSS-RTC (power) "RTC power supply (0V)", 19 VSSQ (power) "Input/output power supply (0V)", 27 VSS (power) "Power supply (0V)", 33 VSSQ (power) "Input/output power supply (0V)", 45 VSSQ (power) "Input/output power supply (0V)", 57 VSSQ (power) "Input/output power supply (0V)", 69 VSSQ (power) "Input/output power supply (0V)", 79 VSS (power) "Power supply (0V)", 83 VSSQ (power) "Input/output power supply (0V)", 95 VSSQ (power) "Input/output power supply (0V)", 109 VSSQ (power) "Input/output power supply (0V)", 132 VSS (power) "Power supply (0V)", 147 VSS-PLL1 (power) "PLL1 power supply (0V)", 148 VSS-PLL2 (power) "PLL2 power supply (0V)", 152 VSS (power) "Power supply (0V)", 153 VSS (power) "Power supply (0V)", 161 VSSQ (power) "Input/output power supply (0V)", 173 VSS (power) "Power supply (0V)", 181 VSSQ (power) "Input/output power supply (0V)", 198 AVSS (power) "Analog power supply (0V)", 208 AVSS (power) "Analog power supply (0V)"

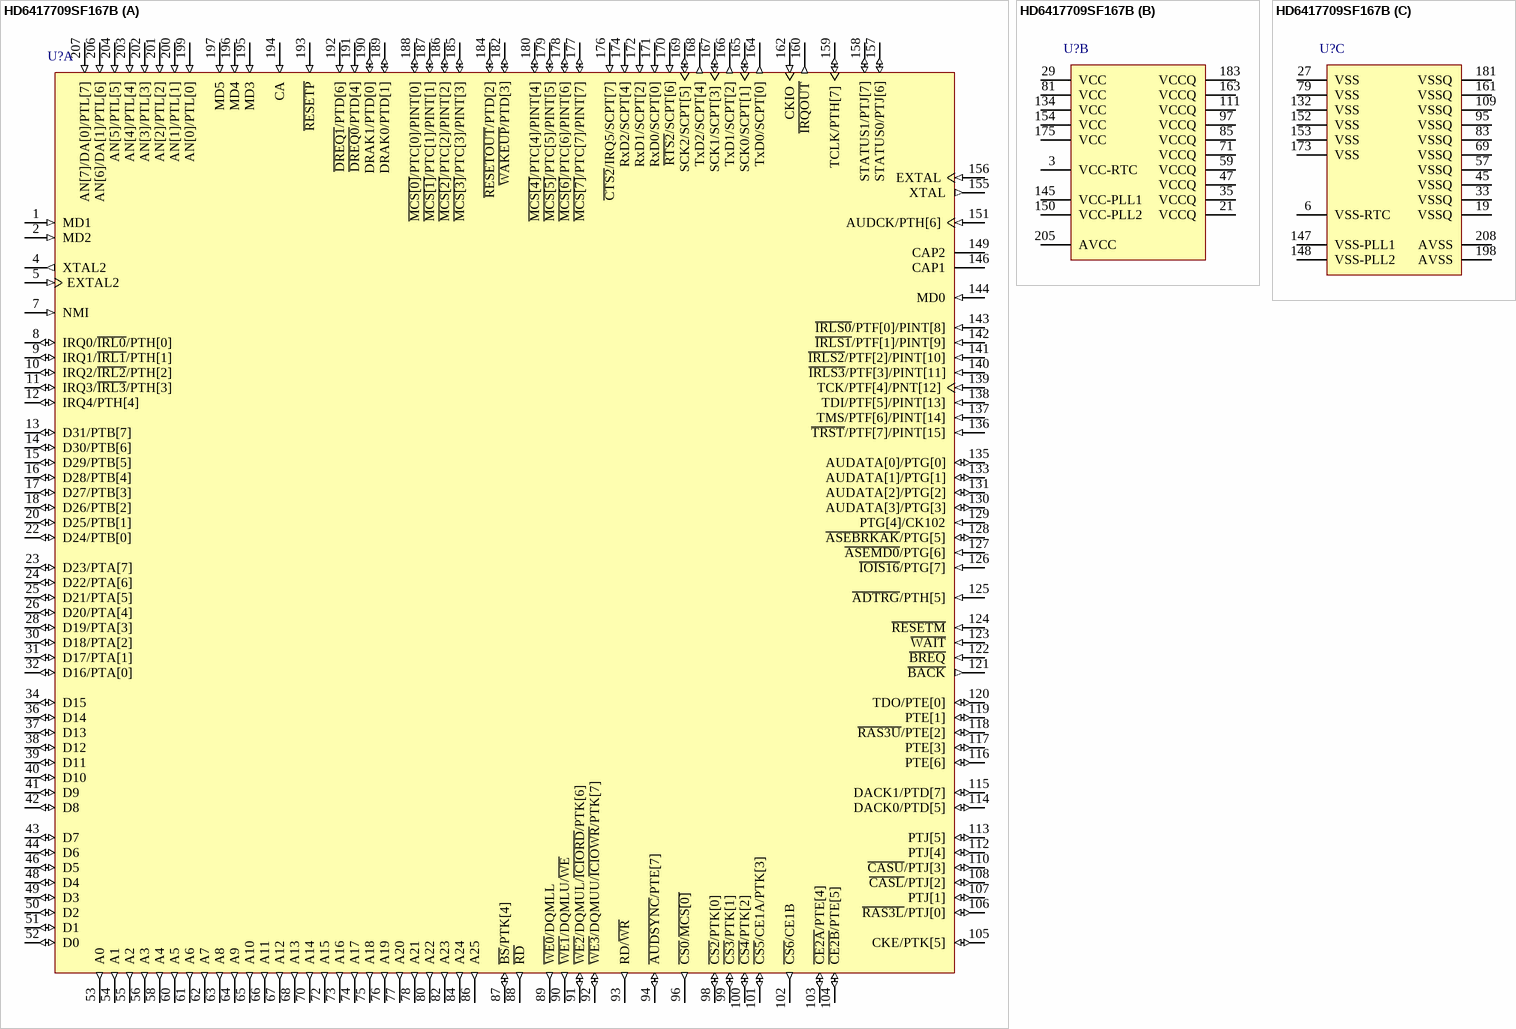
[diagram p37: symbol HD6417709SF167B]

## HD6417709SF167B
designator U?
32-Bit RISC Microcomputer, SH7700 Series, SH-3 core, 167MHz, 208-pin LQFP, -20 to 75°C; Published: 28-Aug-2009; DatasheetVersion: Rev.5.00, Sep-2003; PackageVersion: Sep-2005; PackageReference: PLQP0208KA-A; Publisher: Altium Limited; PackageDescription: 208-Pin Plastic Low Profile QFP, 28 x 28 x 1.4 mm Body, 0.5 mm Pitch; Code_JEITA: P-LQFP208-28x28-0.50; ComponentLink1Description: Manufacturer Link; ComponentLink1URL: http://www.renesas.com/fmwk.jsp?cnt=sh7709s_root.jsp&fp=/products/mpumcu/superh_family/sh7700_series/sh7709s_group/; ComponentLink2Description: Datasheet; ComponentLink2URL: http://documentation.renesas.com/eng/products/mpumcu/rej09b0081_sh7709s.pdf; ComponentLink3Description: Packaging Specification; ComponentLink3URL: http://sg.renesas.com/media/products/common_info/package/pdf/ic/code/plqp0208ka_a.pdf
footprint PLQP0208KA-A_N (Shrink QFP, 208-Leads, Body 28x28mm, Pitch 0.5mm, IPC Medium Density)
footprint PLQP0208KA-A_L (Shrink QFP, 208-Leads, Body 28x28mm, Pitch 0.5mm, IPC High Density)
footprint PLQP0208KA-A_M (Shrink QFP, 208-Leads, Body 28x28mm, Pitch 0.5mm, IPC Low Density)
part A pins: 1 MD1 (in) "Clock mode setting", 2 MD2 (in) "Clock mode setting", 4 XTAL2 (out) "On-chip RTC crystal oscillator pin", 5 EXTAL2 (in) "On-chip RTC crystal oscillator pin", 7 NMI (in) "Nonmaskable interrupt request", 8 IRQ0/~{IRL0}/PTH[0] (io) "External interrupt request/input port H", 9 IRQ1/~{IRL1}/PTH[1] (io) "External interrupt request/input port H", 10 IRQ2/~{IRL2}/PTH[2] (io) "External interrupt request/input port H", 11 IRQ3/~{IRL3}/PTH[3] (io) "External interrupt request/input port H", 12 IRQ4/PTH[4] (io) "External interrupt request/input port H", 13 D31/PTB[7] (io) "Data bus / input/output port B", 14 D30/PTB[6] (io) "Data bus / input/output port B", 15 D29/PTB[5] (io) "Data bus / input/output port B", 16 D28/PTB[4] (io) "Data bus / input/output port B", 17 D27/PTB[3] (io) "Data bus / input/output port B", 18 D26/PTB[2] (io) "Data bus / input/output port B", 20 D25/PTB[1] (io) "Data bus / input/output port B", 22 D24/PTB[0] (io) "Data bus / input/output port B", 23 D23/PTA[7] (io) "Data bus / input/output port A", 24 D22/PTA[6] (io) "Data bus / input/output port A", 25 D21/PTA[5] (io) "Data bus / input/output port A", 26 D20/PTA[4] (io) "Data bus / input/output port A", 28 D19/PTA[3] (io) "Data bus / input/output port A", 30 D18/PTA[2] (io) "Data bus / input/output port A", 31 D17/PTA[1] (io) "Data bus / input/output port A", 32 D16/PTA[0] (io) "Data bus / input/output port A", 34 D15 (io) "Data bus", 36 D14 (io) "Data bus", 37 D13 (io) "Data bus", 38 D12 (io) "Data bus", 39 D11 (io) "Data bus", 40 D10 (io) "Data bus", 41 D9 (io) "Data bus", 42 D8 (io) "Data bus", 43 D7 (io) "Data bus", 44 D6 (io) "Data bus", 46 D5 (io) "Data bus", 48 D4 (io) "Data bus", 49 D3 (io) "Data bus", 50 D2 (io) "Data bus", 51 D1 (io) "Data bus", 52 D0 (io) "Data bus", 53 A0 (out) "Address bus", 54 A1 (out) "Address bus", 55 A2 (out) "Address bus", 56 A3 (out) "Address bus", 58 A4 (out) "Address bus", 60 A5 (out) "Address bus", 61 A6 (out) "Address bus", 62 A7 (out) "Address bus", 63 A8 (out) "Address bus", 64 A9 (out) "Address bus", 65 A10 (out) "Address bus", 66 A11 (out) "Address bus", 67 A12 (out) "Address bus", 68 A13 (out) "Address bus", 70 A14 (out) "Address bus", 72 A15 (out) "Address bus", 73 A16 (out) "Address bus", 74 A17 (out) "Address bus", 75 A18 (out) "Address bus", 76 A19 (out) "Address bus", 77 A20 (out) "Address bus", 78 A21 (out) "Address bus", 80 A22 (out) "Address bus", 82 A23 (out) "Address bus", 84 A24 (out) "Address bus", 86 A25 (out) "Address bus", 87 ~{BS}/PTK[4] (io) "Bus cycle start signal / input/output port K", 88 ~{RD} (out) "Read strobe", 89 ~{WE0}/DQMLL (out) "D7–D0 select signal / DQM (SDRAM)", 90 ~{WE1}/DQMLU/~{WE} (out) "D15–D8 select signal / DQM (SDRAM)", 91 ~{WE2}/DQMUL/~{ICIORD}/PTK[6] (io) "D23–D16 select signal / DQM (SDRAM) / PCMCIA I/O read / input/output port K", 92 ~{WE3}/DQMUU/~{ICIOWR}/PTK[7] (io) "D31–D24 select signal / DQM (SDRAM) / PCMCIA I/O write / input/output port K", 93 RD/~{WR} (out) "Read/write", 94 ~{AUDSYNC}/PTE[7] (io) "AUD synchronous / input/output port E", 96 ~{CS0}/~{MCS[0]} (out) "Chip select 0 / mask ROM chip select 0", 98 ~{CS2}/PTK[0] (io) "Chip select 2 / input/output port K", 99 ~{CS3}/PTK[1] (io) "Chip select 3 / input/output port K", 100 ~{CS4}/PTK[2] (io) "Chip select 4 / input/output port K", 101 ~{CS5}/CE1A/PTK[3] (io) "Chip select 5/CE1 (area 5 PCMCIA) / input/output port K", 102 ~{CS6}/CE1B (out) "Chip select 6/CE1 (area 6 PCMCIA)", 103 ~{CE2A}/PTE[4] (io) "CE2 (area 5 PCMCIA) / input/output port E", 104 ~{CE2B}/PTE[5] (io) "CE2 (area 6 PCMCIA) / input/output port E", 105 CKE/PTK[5] (io) "CK enable (SDRAM) / input/output port K", 106 ~{RAS3L}/PTJ[0] (io) "Lower 32 M / 64 Mbytes address (SDRAM) RAS / input/output port J", 107 PTJ[1] (io) "Input/output port J", 108 ~{CASL}/PTJ[2] (io) "Lower 32 M / 64 Mbytes address (SDRAM) CAS / input/output port J", 110 ~{CASU}/PTJ[3] (io) "Lower 32 Mbytes address (SDRAM) CAS / input/output port J", 112 PTJ[4] (io) "Input/output port J", 113 PTJ[5] (io) "Input/output port J", 114 DACK0/PTD[5] (io) "DMA acknowledge 0 / input/output port D", 115 DACK1/PTD[7] (io) "DMA acknowledge 1 / input/output port D", 116 PTE[6] (io) "Input/output port E", 117 PTE[3] (io) "Input/output port E", 118 ~{RAS3U}/PTE[2] (io) "Upper 32 Mbytes address (SDRAM) RAS / input/output port E", 119 PTE[1] (io) "Input/output port E", 120 TDO/PTE[0] (io) "Test data output / input/output port E", 121 ~{BACK} (out) "Bus acknowledge", 122 ~{BREQ} (in) "Bus request", 123 ~{WAIT} (in) "Hardware wait request", 124 ~{RESETM} (in) "Manual reset request", 125 ~{ADTRG}/PTH[5] (in) "Analog trigger / input port H", 126 ~{IOIS16}/PTG[7] (in) "IOIS16 (PCMCIA) / input port G", 127 ~{ASEMD0}/PTG[6] (in) "ASE mode/ input port G", 128 ~{ASEBRKAK}/PTG[5] (io) "ASE break acknowledge / input port G", 129 PTG[4]/CK102 (in) "Input port G / clock output", 130 AUDATA[3]/PTG[3] (io) "AUD data / input port G", 131 AUDATA[2]/PTG[2] (io) "AUD data / input port G", 133 AUDATA[1]/PTG[1] (io) "AUD data / input port G", 135 AUDATA[0]/PTG[0] (io) "AUD data / input port G", 136 ~{TRST}/PTF[7]/PINT[15] (in) "Test reset / input port F / port interrupt", 137 TMS/PTF[6]/PINT[14] (in) "Test mode switch / input port F / port interrupt", 138 TDI/PTF[5]/PINT[13] (in) "Test data input / input port F / port interrupt", 139 TCK/PTF[4]/PNT[12] (in) "Test clock / input port F / port interrupt", 140 ~{IRLS3}/PTF[3]/PINT[11] (in) "External interrupt request / input port F / port interrupt", 141 ~{IRLS2}/PTF[2]/PINT[10] (in) "External interrupt request / input port F / port interrupt", 142 ~{IRLS1}/PTF[1]/PINT[9] (in) "External interrupt request / input port F / port interrupt", 143 ~{IRLS0}/PTF[0]/PINT[8] (in) "External interrupt request / input port F / port interrupt", 144 MD0 (in) "Clock mode setting", 146 CAP1 "PLL1 external capacitance pin", 149 CAP2 "PLL2 external capacitance pin", 151 AUDCK/PTH[6] (in) "AUD clock / input port H", 155 XTAL (out) "Clock oscillator pin", 156 EXTAL (in) "External clock pin / crystal oscillator", 157 STATUS0/PTJ[6] (io) "Processor status / input/output port J", 158 STATUS1/PTJ[7] (io) "Processor status / input/output port J", 159 TCLK/PTH[7] (io) "TMU or RTC clock input/output / input/output port H", 160 ~{IRQOUT} (out) "Interrupt request notification", 162 CKIO (in) "System clock input/output", 164 TxD0/SCPT[0] (out) "Transmit data 0 / SCI output port", 165 SCK0/SCPT[1] (io) "Serial clock 0 port / SCI input/output", 166 TxD1/SCPT[2] (out) "Transmit data 1 / SCI output port", 167 SCK1/SCPT[3] (io) "Serial clock 1 port / SCI input/output", 168 TxD2/SCPT[4] (out) "Transmit data 2 / SCI output port", 169 SCK2/SCPT[5] (io) "Serial clock 2 port / SCI input/output", 170 ~{RTS2}/SCPT[6] (in) "Transmit request 2 / SCI input/output port", 171 RxD0/SCPT[0] (in) "Transmit data 0 / SCI output port", 172 RxD1/SCPT[2] (in) "Transmit data 1 / SCI output port", 174 RxD2/SCPT[4] (in) "Transmit data 2 / SCI output port", 176 ~{CTS2}/IRQ5/SCPT[7] (in) "Transmit clear 2 / external interrupt request / SCI input port", 177 ~{MCS[7]}/PTC[7]/PINT[7] (io) "Mask ROM chip select / input/output port C / port interrupt", 178 ~{MCS[6]}/PTC[6]/PINT[6] (io) "Mask ROM chip select / input/output port C / port interrupt", 179 ~{MCS[5]}/PTC[5]/PINT[5] (io) "Mask ROM chip select / input/output port C / port interrupt", 180 ~{MCS[4]}/PTC[4]/PINT[4] (io) "Mask ROM chip select / input/output port C / port interrupt", 182 ~{WAKEUP}/PTD[3] (io) "Standby mode interrupt request notification / input/output port D", 184 ~{RESETOUT}/PTD[2] (io) "Reset output / input/output port D", 185 ~{MCS[3]}/PTC[3]/PINT[3] (io) "Mask ROM chip select / input/output port C / port interrupt", 186 ~{MCS[2]}/PTC[2]/PINT[2] (io) "Mask ROM chip select / input/output port C / port interrupt", 187 ~{MCS[1]}/PTC[1]/PINT[1] (io) "Mask ROM chip select / input/output port C / port interrupt", 188 ~{MCS[0]}/PTC[0]/PINT[0] (io) "Mask ROM chip select / input/output port C / port interrupt", 189 DRAK0/PTD[1] (io) "DMA request acknowledge / input/output port D", 190 DRAK1/PTD[0] (io) "DMA request acknowledge / input/output port D", 191 ~{DREQ0}/PTD[4] (in) "DMA request / input port D", 192 ~{DREQ1}/PTD[6] (in) "DMA request / input port D", 193 ~{RESETP} (in) "Power-on reset request", 194 CA (in) "Chip activate (hardware standby request signal)", 195 MD3 (in) "Area 0 bus width setting", 196 MD4 (in) "Area 0 bus width setting", 197 MD5 (in) "Endian setting", 199 AN[0]/PTL[0] (in) "A/D converter input / input port L", 200 AN[1]/PTL[1] (in) "A/D converter input / input port L", 201 AN[2]/PTL[2] (in) "A/D converter input / input port L", 202 AN[3]/PTL[3] (in) "A/D converter input / input port L", 203 AN[4]/PTL[4] (in) "A/D converter input / input port L", 204 AN[5]/PTL[5] (in) "A/D converter input / input port L", 206 AN[6]/DA[1]/PTL[6] (in) "A/D converter input / D/A converter output / input port L", 207 AN[7]/DA[0]/PTL[7] (in) "A/D converter input / D/A converter output / input port L"
part B pins: 3 VCC-RTC (power) "RTC power supply", 21 VCCQ (power) "Input/output power supply (3.3V)", 29 VCC (power) "Power supply (1.9 V/1.8V)", 35 VCCQ (power) "Input/output power supply (3.3V)", 47 VCCQ (power) "Input/output power supply (3.3V)", 59 VCCQ (power) "Input/output power supply (3.3V)", 71 VCCQ (power) "Input/output power supply (3.3V)", 81 VCC (power) "Power supply", 85 VCCQ (power) "Input/output power supply (3.3V)", 97 VCCQ (power) "Input/output power supply (3.3V)", 111 VCCQ (power) "Input/output power supply (3.3V)", 134 VCC (power) "Power supply", 145 VCC-PLL1 (power) "PLL1 power supply", 150 VCC-PLL2 (power) "PLL2 power supply", 154 VCC (power) "Power supply", 163 VCCQ (power) "Power supply (3.3V)", 175 VCC (power) "Power supply", 183 VCCQ (power) "Input/output power supply (3.3V)", 205 AVCC (power) "Analog power supply (3.3V)"
part C pins: 6 VSS-RTC (power) "RTC power supply (0V)", 19 VSSQ (power) "Input/output power supply (0V)", 27 VSS (power) "Power supply (0V)", 33 VSSQ (power) "Input/output power supply (0V)", 45 VSSQ (power) "Input/output power supply (0V)", 57 VSSQ (power) "Input/output power supply (0V)", 69 VSSQ (power) "Input/output power supply (0V)", 79 VSS (power) "Power supply (0V)", 83 VSSQ (power) "Input/output power supply (0V)", 95 VSSQ (power) "Input/output power supply (0V)", 109 VSSQ (power) "Input/output power supply (0V)", 132 VSS (power) "Power supply (0V)", 147 VSS-PLL1 (power) "PLL1 power supply (0V)", 148 VSS-PLL2 (power) "PLL2 power supply (0V)", 152 VSS (power) "Power supply (0V)", 153 VSS (power) "Power supply (0V)", 161 VSSQ (power) "Input/output power supply (0V)", 173 VSS (power) "Power supply (0V)", 181 VSSQ (power) "Input/output power supply (0V)", 198 AVSS (power) "Analog power supply (0V)", 208 AVSS (power) "Analog power supply (0V)"

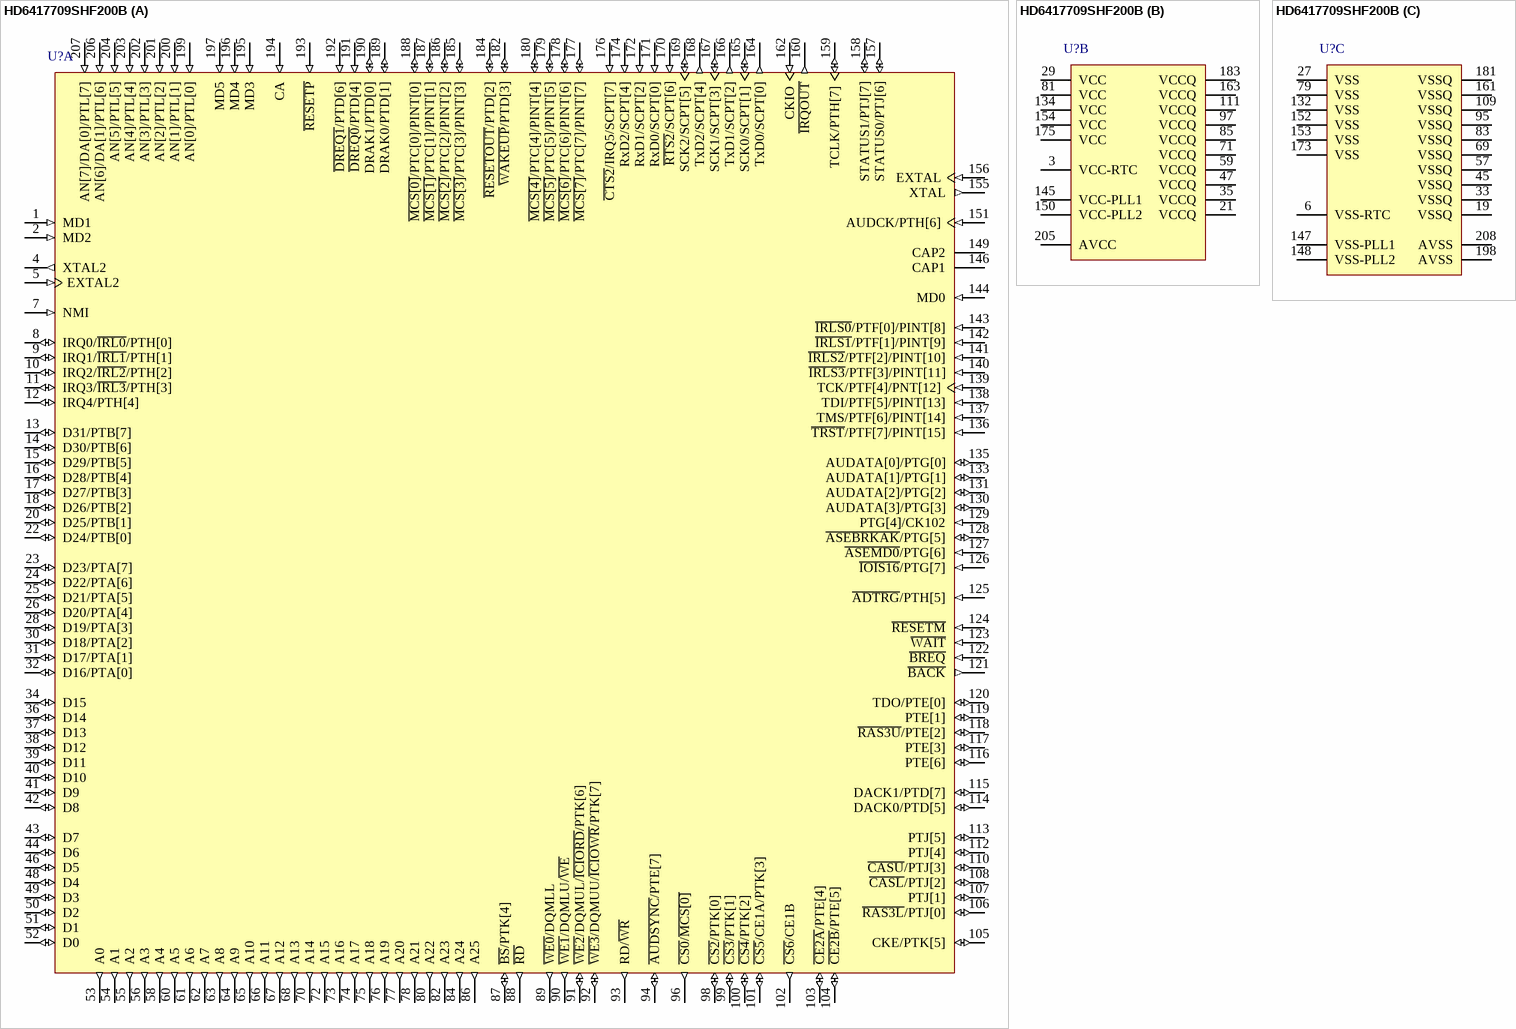
[diagram p38: symbol HD6417709SHF200B]